# EAGLE library part 53048-1210 (library con-molex-picoblade)
HEADER
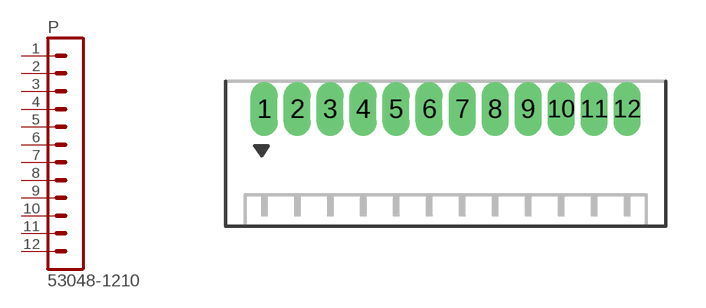
[diagram p16: symbol with the pads of 53048-1210; footprint 53048-1210]

Designator prefix P

## 53048-1210  [53048-1210]
1  1  pas
2  2  pas
3  3  pas
4  4  pas
5  5  pas
6  6  pas
7  7  pas
8  8  pas
9  9  pas
10  10  pas
11  11  pas
12  12  pas

## Footprint 53048-1210 (pad centres in mm)
HEADER
drill 0.508 long: 1 -6.875,0; 2 -5.625,0; 3 -4.375,0; 4 -3.125,0; 5 -1.875,0; 6 -0.625,0; 7 0.625,0; 8 1.875,0; 9 3.125,0; 10 4.375,0; 11 5.625,0; 12 6.875,0